# EAGLE library part IMAXX_H7810_KFZ_FUSE_HOLDER_6X (library own_parts2)
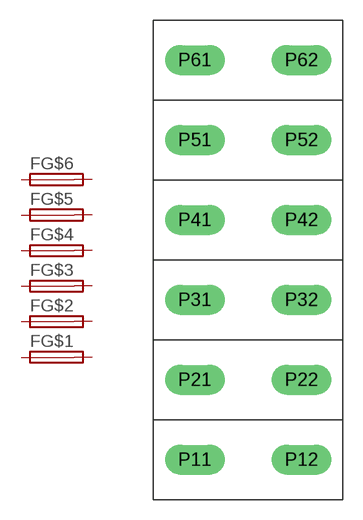
[diagram p13: symbol with the pads of H7810_KFZFUSE_6X; footprint H7810_KFZFUSE_6X]

Designator prefix F; gates G$1=FUSE_MULTI G$2=FUSE_MULTI G$3=FUSE_MULTI G$4=FUSE_MULTI G$5=FUSE_MULTI G$6=FUSE_MULTI

## IMAXX_H7810_KFZ_FUSE_HOLDER_6X  [H7810_KFZFUSE_6X]
P11  G$1:1  pas
P12  G$1:2  pas
P21  G$2:1  pas
P22  G$2:2  pas
P31  G$3:1  pas
P32  G$3:2  pas
P41  G$4:1  pas
P42  G$4:2  pas
P51  G$5:1  pas
P52  G$5:2  pas
P61  G$6:1  pas
P62  G$6:2  pas

## Footprint H7810_KFZFUSE_6X (pad centres in mm)
drill 1.5 long: P11 0,0; P12 8,0; P21 0,6; P22 8,6; P31 0,12; P32 8,12; P41 0,18; P42 8,18; P51 0,24; P52 8,24; P61 0,30; P62 8,30